# Altium footprint library ECS Crystal Oscillator.PcbLib: 7 footprints
Each footprint in its own frame and in the unit in brackets; x right, y up, seen from the top. Pads: shape width x height; smd on the part's side, far side on the other; paste and mask are expansions set on the pad; w line width, h text height; cw(c..) or ccw(c..) is an arc to the next point about the centre after c.
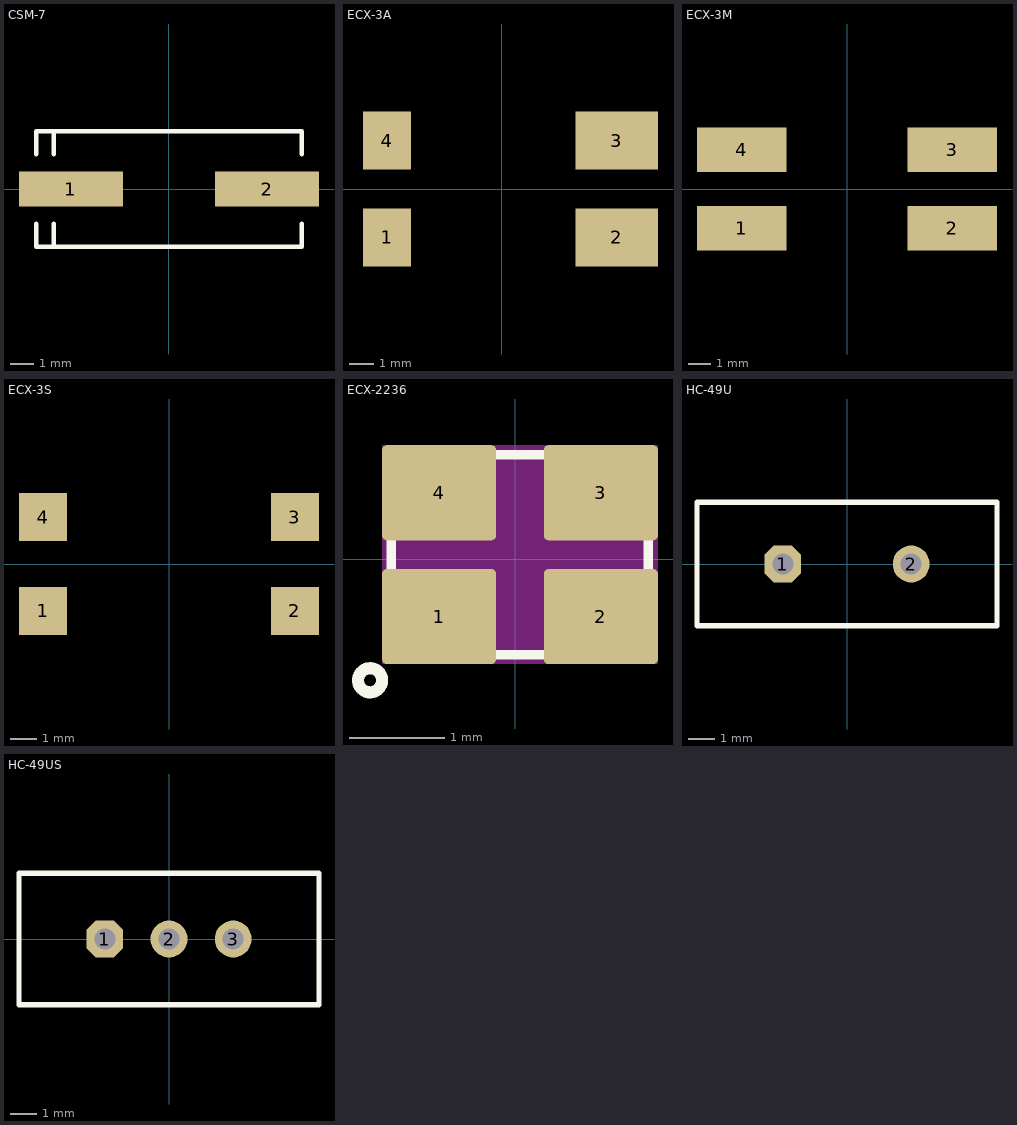
[diagram p0: the footprints below, top view; thin cyan lines are the x and y axes]

## CSM-7 [mm] "Quartz Crystal, SM; 2 Leads; Body 11.4 x 4.8 x 5 mm (LxWxH)"
height 5
pads (2):
  rect 4.5x1.5 smd: 1(-4.25,0) 2(4.25,0)
Top Overlay:
  lines w0.2: -5.75,-1.5 -5.75,-2.5 5.75,-2.5 5.75,-1.5 ; -5.75,1.5 -5.75,2.5 5.75,2.5 5.75,1.5 ; -5,-2.5 -5,-1.5 ; -5,1.5 -5,2.5

## ECX-3A [mm] "Quartz Crystal, SM; 4 Leads; Body 13 x 5 x 5 mm (LxWxH)"
height 5
pads (4):
  rect 2x2.4 smd: 1(-4.75,-2) 4(-4.75,2)
  rect 3.4x2.4 smd: 2(4.75,-2) 3(4.75,2)

## ECX-3M [mm] "Quartz Crystal, SM; 4 Leads; Body 13 x 4.7 x 4.2 mm (LxWxH)"
height 4.2
pads (4):
  rect 4x2 smd: 1(-4.7,-1.75) 2(4.7,-1.75) 3(4.7,1.75) 4(-4.7,1.75)

## ECX-3S [mm] "Quartz Crystal, SM; 4 Leads; Body 12.5 x 4.6 x 3.7 mm (LxWxH)"
height 3.7
pads (4):
  rect 1.8x1.8 smd: 1(-4.7,-1.75) 2(4.7,-1.75) 3(4.7,1.75) 4(-4.7,1.75)

## ECX-2236 [mm] "Compact SMD Crystal"
height 0.56
pads (4):
  rrect10% 1.2x1 smd: 1(-0.8,-0.6) 2(0.9,-0.6) 3(0.9,0.7) 4(-0.8,0.7)
Top Overlay:
  circle w0.127: c-1.524,-1.27 r0.127
  lines w0.1: -1.3,-0.1 -1.3,0.2 ; -0.2,-1 0.3,-1 ; -0.2,1.1 0.3,1.1 ; 1.4,-0.1 1.4,0.2
Keep-Out Layer:
  rectangle: -1.4,-1.1 1.5,1.2
3D body: height 0, standoff 0, extent -1.4,-1.1 1.5,1.2

## HC-49U [mm] "Quartz Crystal, Thru-Hole; 2 Leads; Body 11.35 x 4.65 x 13.46 mm (LxWxH max)"
height 13.46
pads (2):
  oct 1.4x1.4 hole 0.8: 1(-2.44,0)
  round 1.4 hole 0.8: 2(2.44,0)
Top Overlay:
  lines w0.2: -5.7,-2.35 5.7,-2.35 5.7,2.35 -5.7,2.35 -5.7,-2.35

## HC-49US [mm] "Quartz Crystal, Thru-Hole; 3 Leads; Body 11.35 x 5 x 3.5 mm (LxWxH max)"
height 3.5
pads (3):
  oct 1.4x1.4 hole 0.8: 1(-2.44,0)
  round 1.4 hole 0.8: 2(0,0) 3(2.44,0)
Top Overlay:
  lines w0.2: -5.7,-2.5 5.7,-2.5 5.7,2.5 -5.7,2.5 -5.7,-2.5